# EAGLE library part PCA9517 (library saha-cpu)
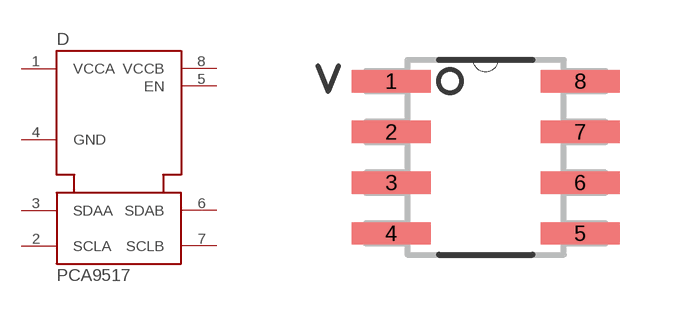
[diagram p4: symbol with the pads of OMAT_IC_2_SOIC8-N_MC; footprint OMAT_IC_2_SOIC8-N_MC]

Designator prefix D

## PCA9517  [OMAT_IC_2_SOIC8-N_MC]
1  VCCA
2  SCLA
3  SDAA
4  GND
5  EN
6  SDAB
7  SCLB
8  VCCB

## Footprint OMAT_IC_2_SOIC8-N_MC (pad centres in mm)
smd 1.981 x 0.559: 1 -2.362,1.905; 2 -2.362,0.635; 3 -2.362,-0.635; 4 -2.362,-1.905; 5 2.362,-1.905; 6 2.362,-0.635; 7 2.362,0.635; 8 2.362,1.905